# Altium footprint library 7443844020022.PcbLib: 1 footprints
Each footprint in its own frame and in the unit in brackets; x right, y up, seen from the top. Pads: shape width x height; smd on the part's side, far side on the other; paste and mask are expansions set on the pad; w line width, h text height; cw(c..) or ccw(c..) is an arc to the next point about the centre after c.
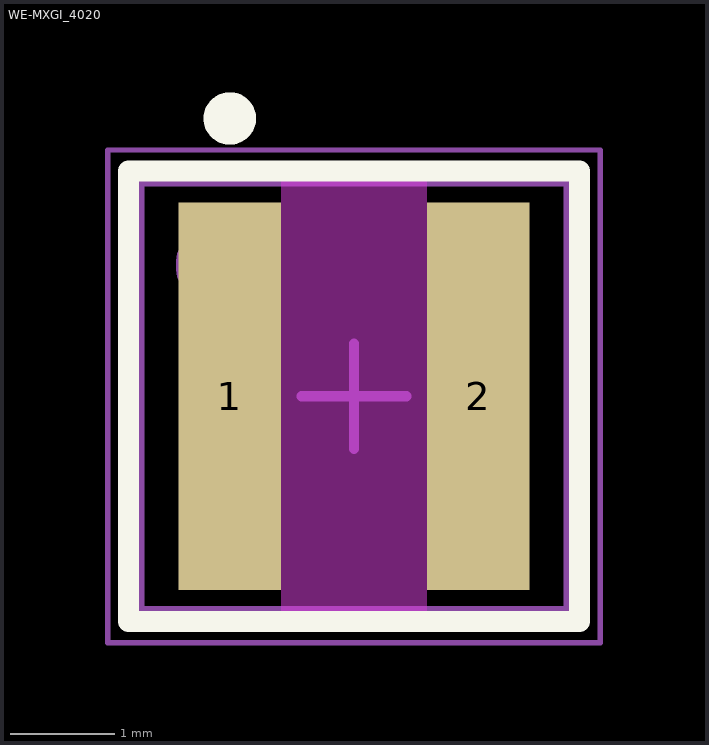
[diagram p0: the footprint, top view; thin cyan lines are the x and y axes]

## WE-MXGI_4020 [mm] "SMT Power Inductor, body 4.10 x 4.10 mm"
height 2.1
pads (2):
  rect 0.98x3.7 smd: 1(-1271.185,-1270) 2(-1268.815,-1270)
Top Layer keep-out:
  region: -1270.695,-1267.95 -1269.305,-1267.95 -1269.305,-1272.05 -1270.695,-1272.05
Top Overlay:
  circle w0.25: c-1271.185,-1267.35 r0.125
  lines w0.2: -1272.15,-1272.15 -1272.15,-1267.85 -1267.85,-1267.85 -1267.85,-1272.15 -1272.15,-1272.15
Top Assembly:
  circle w0.1: c-1271.15,-1268.85 r0.4
  lines w0.1: -1272.15,-1272.15 -1272.15,-1267.85 -1267.85,-1267.85 -1267.85,-1272.15 -1272.15,-1272.15
Top Designator:
  text ".Designator" at -1273.647,-1270.357 h1
Top 3D Body:
  circle w0.1: c-1271.25,-1268.75 r0.4
  lines w0.1: -1272.05,-1272.05 -1267.95,-1272.05 -1267.95,-1267.95 -1272.05,-1267.95 -1272.05,-1272.05
Top Courtyard:
  lines w0.05: -1272.35,-1272.35 -1272.35,-1267.65 -1267.65,-1267.65 -1267.65,-1272.35 -1272.35,-1272.35
Top Component Center:
  lines w0.1: -1270.5,-1270 -1269.5,-1270 ; -1270,-1270.5 -1270,-1269.5
3D body "WE-MXGI_4020.stp": height 2.15, standoff 0.05, extent -1272.05,-1272.05 -1267.95,-1267.95